# Altium schematic symbol library Schematic.SchLib: 3 symbols
Pins are listed as number, name and electrical type; pins without a type are passive.

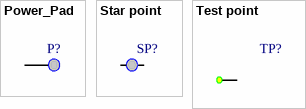
[diagram p0: symbols Power_Pad to Test point]

## Power_Pad
designator P?  (value not drawn)
footprint PowerPad (Power pad)
pins: P? Power

## Star point
designator SP?  (value not drawn)
Star point
footprint Star Point (starpoint power)
pins: 1 Star point, 2 SP?

## Test point
designator TP?
value: Test point
footprint Test point (referrence point)
pins: TP? Test point